# Altium footprint library Motor.PcbLib: 1 footprints
Each footprint in its own frame and in the unit in brackets; x right, y up, seen from the top. Pads: shape width x height; smd on the part's side, far side on the other; paste and mask are expansions set on the pad; w line width, h text height; cw(c..) or ccw(c..) is an arc to the next point about the centre after c.
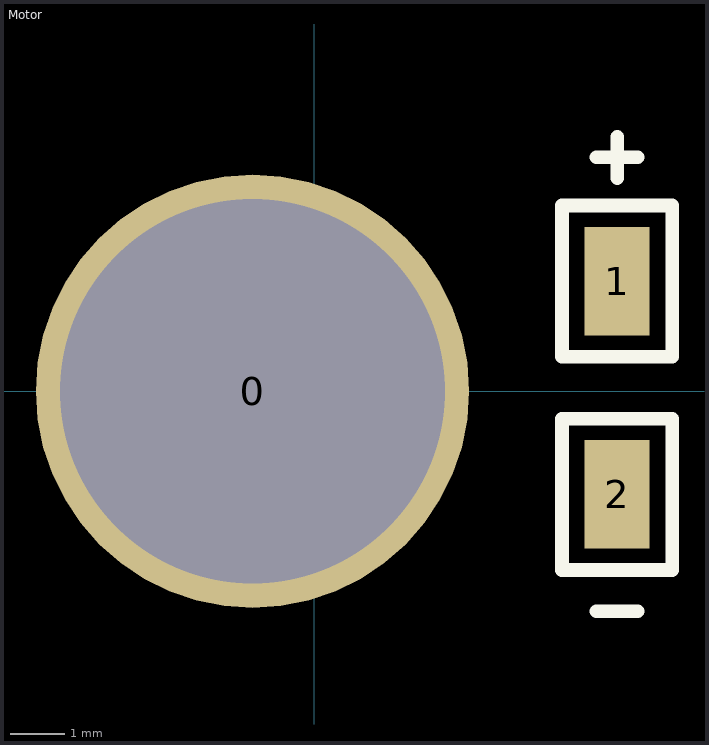
[diagram p0: the footprint, top view; thin cyan lines are the x and y axes]

## Motor [mm]
pads (3):
  round 8 hole 7.1: 0(-1.143,0)
  rect 1.2x2 smd: 1(5.588,2.032) 2(5.588,-1.905)
Top Overlay:
  lines w0.254: 5.207,-4.064 5.969,-4.064 ; 5.207,4.318 5.969,4.318 ; 5.588,3.937 5.588,4.699 ; 4.572,-3.302 6.604,-3.302 6.604,-0.508 4.572,-0.508 4.572,-3.302 ; 4.572,0.635 4.572,3.429 6.604,3.429 6.604,0.635 4.572,0.635